# EAGLE library part 74HC4052-Q100 (library motor)
Dual 4X1 MUX / DEMUX
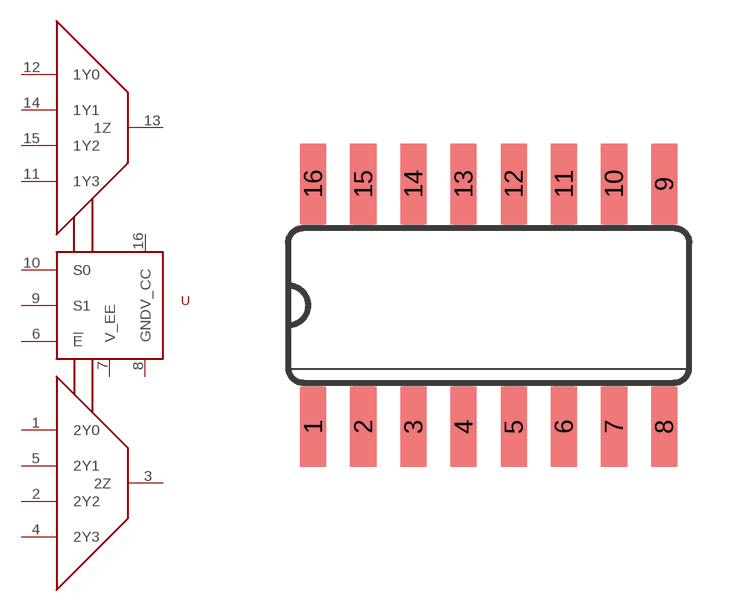
[diagram p4: symbol with the pads of SO16; footprint SO16]

Designator prefix -

## 74HC4052-Q100  [SO16]
1  2Y0
2  2Y2
3  2Z
4  2Y3
5  2Y1
6  !E
7  V_EE
8  GND
9  S1
10  S0
11  1Y3
12  1Y0
13  1Z
14  1Y1
15  1Y2
16  V_CC

## Footprint SO16 (pad centres in mm)
smd 0.66 x 2.032: 1 -4.445,-3.073; 2 -3.175,-3.073; 3 -1.905,-3.073; 4 -0.635,-3.073; 5 0.635,-3.073; 6 1.905,-3.073; 7 3.175,-3.073; 8 4.445,-3.073; 9 4.445,3.073; 10 3.175,3.073; 11 1.905,3.073; 12 0.635,3.073; 13 -0.635,3.073; 14 -1.905,3.073; 15 -3.175,3.073; 16 -4.445,3.073